# Altium footprint library Omnetics.PcbLib: 4 footprints
Each footprint in its own frame and in the unit in brackets; x right, y up, seen from the top. Pads: shape width x height; smd on the part's side, far side on the other; paste and mask are expansions set on the pad; w line width, h text height; cw(c..) or ccw(c..) is an arc to the next point about the centre after c.
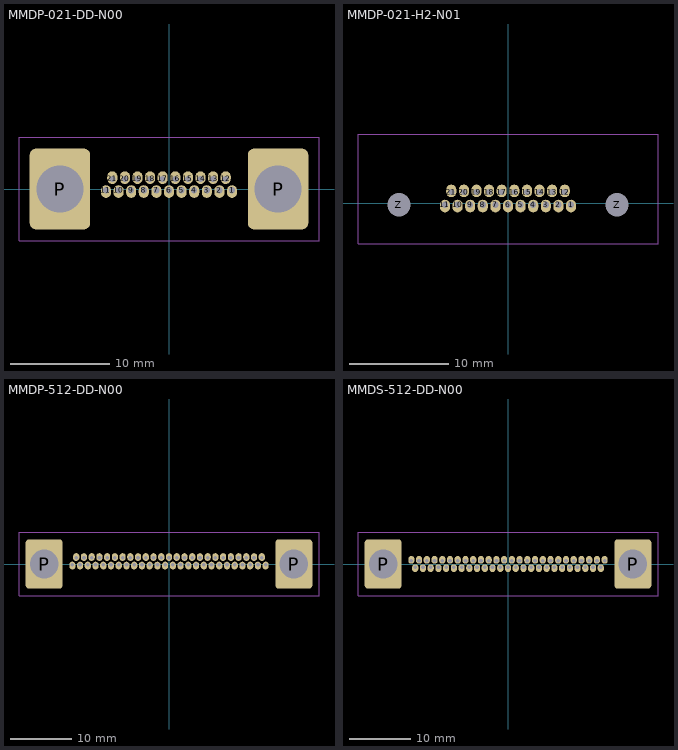
[diagram p0: the footprints below, top view; thin cyan lines are the x and y axes]

## MMDP-021-DD-N00 [mil]
pads (23):
  oval 40x50 hole 24 copper offset 0,-5 mask+2: 1(250,-5) 2(200,-5) 3(150,-5) 4(100,-5) 5(50,-5) 6(0,-5) 7(-50,-5) 8(-100,-5) 9(-150,-5) 10(-200,-5) 11(-250,-5)
  oval 40x50 hole 24 copper offset 0,5 mask+2: 12(225,40) 13(175,40) 14(125,40) 15(75,40) 16(25,40) 17(-25,40) 18(-75,40) 19(-125,40) 20(-175,40) 21(-225,40)
  rrect20% 240x320 / inner round 220 / far side round 220 hole 185: P(-432.5,0) P(432.5,0)
Top Courtyard:
  lines w1: -595,-205 595,-205 595,205 -595,205 -595,-205
Multi-Layer:
  pour cut-out: 225,80 228.57,80 235.56,78.61 242.15,75.88 248.08,71.92 250.61,69.39 265,55 268.57,51.43 274.17,43.05 278.03,33.73 280,23.83 280,18.79 280,-15 280,-17.95 278.85,-23.75 276.59,-29.21 273.3,-34.12 269.12,-38.3 264.21,-41.59 258.75,-43.85 252.95,-45 250,-45 -250,-45 -252.95,-45 -258.75,-43.85 -264.21,-41.59 -269.12,-38.3 -273.3,-34.12 -276.59,-29.21 -278.85,-23.75 -280,-17.95 -280,-15 -280,18.79 -280,23.83 -278.03,33.73 -274.17,43.05 -268.57,51.43 -265,55 -250.61,69.39 -248.08,71.92 -242.15,75.88 -235.56,78.61 -228.57,80 -225,80
3D body "A98022-021.STEP": height 350, standoff -110, extent -537.51,-150.51 537.49,149.99

## MMDP-021-H2-N01 [mil]
pads (23):
  oval 40x50 hole 24 copper offset 0,-5 mask+2: 1(250,-5) 2(200,-5) 3(150,-5) 4(100,-5) 5(50,-5) 6(0,-5) 7(-50,-5) 8(-100,-5) 9(-150,-5) 10(-200,-5) 11(-250,-5)
  oval 40x50 hole 24 copper offset 0,5 mask+2: 12(225,45) 13(175,45) 14(125,45) 15(75,45) 16(25,45) 17(-25,45) 18(-75,45) 19(-125,45) 20(-175,45) 21(-225,45)
  round 50 hole 92 unplated: Z(-432.5,-5) Z(432.5,-5)
Top Courtyard:
  lines w1: -595,-160 595,-160 595,275 -595,275 -595,-160
Multi-Layer:
  pour cut-out: -225,85 -228.57,85 -235.56,83.61 -242.15,80.88 -248.09,76.91 -250.61,74.39 -265,60 -268.57,56.43 -274.17,48.05 -278.03,38.72 -280,28.83 -280,23.79 -280,-15 -280,-17.95 -278.85,-23.75 -276.59,-29.21 -273.3,-34.12 -269.12,-38.3 -264.21,-41.59 -258.75,-43.85 -252.96,-45 -250,-45 250,-45 252.95,-45 258.75,-43.85 264.21,-41.59 269.12,-38.3 273.3,-34.12 276.59,-29.21 278.85,-23.75 280,-17.95 280,-15 280,23.79 280,28.83 278.03,38.73 274.17,48.05 268.57,56.43 265,60 250.61,74.39 248.09,76.92 242.15,80.88 235.56,83.61 228.57,85 225,85
3D body "A98421-021.STEP": height 321.5, standoff -109, extent -537.5,-101.5 537.5,463

## MMDP-512-DD-N00 [mil]
pads (53):
  oval 40x50 hole 24 copper offset 0,-5 mask+2: 1(625,-5) 2(575,-5) 3(525,-5) 4(475,-5) 5(425,-5) 6(375,-5) 7(325,-5) 8(275,-5) 9(225,-5) 10(175,-5) 11(125,-5) 12(75,-5) 13(25,-5) 14(-25,-5) 15(-75,-5) 16(-125,-5) 17(-175,-5) 18(-225,-5) 19(-275,-5) 20(-325,-5) 21(-375,-5) 22(-425,-5) 23(-475,-5) 24(-525,-5) 25(-575,-5) 26(-625,-5)
  oval 40x50 hole 24 copper offset 0,5 mask+2: 27(600,40) 28(550,40) 29(500,40) 30(450,40) 31(400,40) 32(350,40) 33(300,40) 34(250,40) 35(200,40) 36(150,40) 37(100,40) 38(50,40) 39(0,40) 40(-50,40) 41(-100,40) 42(-150,40) 43(-200,40) 44(-250,40) 45(-300,40) 46(-350,40) 47(-400,40) 48(-450,40) 49(-500,40) 50(-550,40) 51(-600,40)
  rrect20% 240x320 / inner round 220 / far side round 220 hole 185: P(-807.5,0) P(807.5,0)
Top Courtyard:
  lines w1: -970,-205 -970,205 970,205 970,-205 -970,-205
Multi-Layer:
  pour cut-out: -600,80 -603.57,80 -610.56,78.61 -617.15,75.88 -623.09,71.91 -625.61,69.39 -640,55 -643.57,51.43 -649.17,43.05 -653.03,33.72 -655,23.83 -655,18.79 -655,-15 -655,-17.95 -653.85,-23.75 -651.59,-29.21 -648.3,-34.12 -644.12,-38.3 -639.21,-41.59 -633.75,-43.85 -627.96,-45 -625,-45 625,-45 627.96,-45 633.75,-43.85 639.21,-41.58 644.12,-38.3 648.3,-34.12 651.59,-29.21 653.85,-23.75 655,-17.95 655,-15 655,18.79 655,23.83 653.03,33.73 649.17,43.05 643.57,51.43 640,55 625.61,69.39 623.09,71.92 617.15,75.88 610.56,78.61 603.57,80 600,80
3D body "A98022-512.STEP": height 350, standoff -110, extent -912.51,-150.51 912.49,149.99

## MMDS-512-DD-N00 [mil]
pads (53):
  oval 40x50 hole 24 copper offset 0,5 mask+2: 1(625,21.65) 2(575,21.65) 3(525,21.65) 4(475,21.65) 5(425,21.65) 6(375,21.65) 7(325,21.65) 8(275,21.65) 9(225,21.65) 10(175,21.65) 11(125,21.65) 12(75,21.65) 13(25,21.65) 14(-25,21.65) 15(-75,21.65) 16(-125,21.65) 17(-175,21.65) 18(-225,21.65) 19(-275,21.65) 20(-325,21.65) 21(-375,21.65) 22(-425,21.65) 23(-475,21.65) 24(-525,21.65) 25(-575,21.65) 26(-625,21.65)
  oval 40x50 hole 24 copper offset 0,-5 mask+2: 27(600,-21.65) 28(550,-21.65) 29(500,-21.65) 30(450,-21.65) 31(400,-21.65) 32(350,-21.65) 33(300,-21.65) 34(250,-21.65) 35(200,-21.65) 36(150,-21.65) 37(100,-21.65) 38(50,-21.65) 39(0,-21.65) 40(-50,-21.65) 41(-100,-21.65) 42(-150,-21.65) 43(-200,-21.65) 44(-250,-21.65) 45(-300,-21.65) 46(-350,-21.65) 47(-400,-21.65) 48(-450,-21.65) 49(-500,-21.65) 50(-550,-21.65) 51(-600,-21.65)
  rrect20% 240x320 / inner round 220 / far side round 220 hole 185: P(-807.5,0) P(807.5,0)
Top Courtyard:
  lines w1: -970,-205 -970,205 970,205 970,-205 -970,-205
Multi-Layer:
  pour cut-out: -600,-62.5 -603.57,-62.5 -610.56,-61.11 -617.15,-58.38 -623.09,-54.41 -625.61,-51.89 -640,-37.5 -643.57,-33.93 -649.17,-25.55 -653.03,-16.22 -655,-6.33 -655,-1.29 -655,32.5 -655,35.45 -653.85,41.25 -651.59,46.71 -648.3,51.62 -644.12,55.8 -639.21,59.09 -633.75,61.35 -627.96,62.5 -625,62.5 625,62.5 627.96,62.5 633.75,61.35 639.21,59.08 644.12,55.8 648.3,51.62 651.59,46.71 653.85,41.25 655,35.45 655,32.5 655,-1.29 655,-6.33 653.03,-16.23 649.17,-25.55 643.57,-33.93 640,-37.5 625.61,-51.89 623.09,-54.42 617.15,-58.38 610.56,-61.11 603.57,-62.5 600,-62.5
3D body "A99046-512.STEP": height 360, standoff -130, extent -912.49,-149.99 912.51,150.51